# Altium footprint library Connector_USB.PcbLib: 1 footprints
Each footprint in its own frame and in the unit in brackets; x right, y up, seen from the top. Pads: shape width x height; smd on the part's side, far side on the other; paste and mask are expansions set on the pad; w line width, h text height; cw(c..) or ccw(c..) is an arc to the next point about the centre after c.
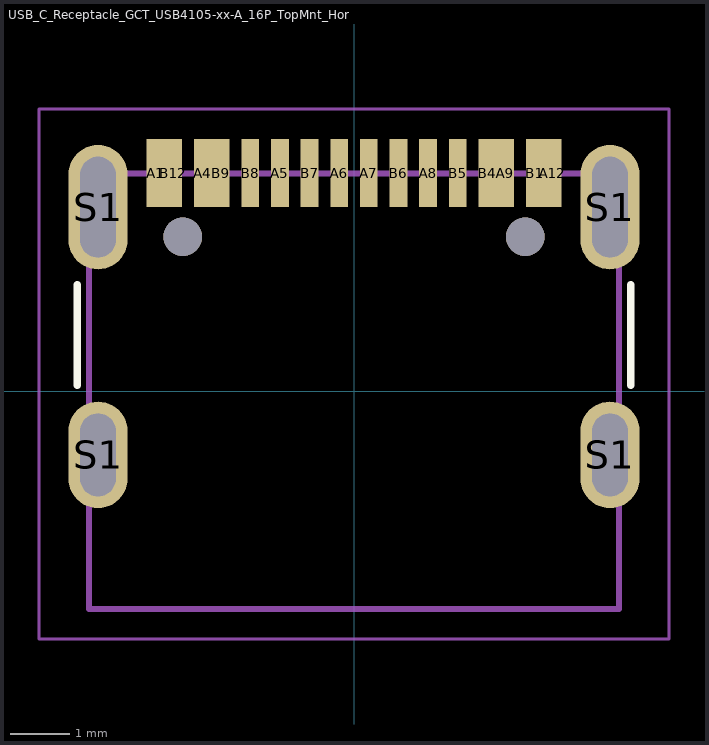
[diagram p0: the footprint, top view; thin cyan lines are the x and y axes]

## USB_C_Receptacle_GCT_USB4105-xx-A_16P_TopMnt_Horizontal [mm]
pads (22):
  rect 0.3x1.15 smd: A1(-3.35,3.68) A4(-2.55,3.68) A5(-1.25,3.68) A6(-0.25,3.68) A7(0.25,3.68) A8(1.25,3.68) A9(2.55,3.68) A12(3.35,3.68) B1(3.05,3.68) B4(2.25,3.68) B5(1.75,3.68) B6(0.75,3.68) B7(-0.75,3.68) B8(-1.75,3.68) B9(-2.25,3.68) B12(-3.05,3.68)
  oval 1x1.8 hole 0.6 slot 1.4 at 90 deg: S1(-4.32,-1.075) S1(4.32,-1.075)
  oval 1x2.1 hole 0.6 slot 1.7 at 90 deg: S1(-4.32,3.105) S1(4.32,3.105)
  round 0.65 hole 0.65 unplated: ""(-2.89,2.605) ""(2.89,2.605)
Top Overlay:
  lines w0.12: -4.67,0.1 -4.67,1.8 ; 4.67,0.1 4.67,1.8
Mechanical 13:
  lines w0.1: -4.47,-3.675 4.47,-3.675 4.47,3.675 -4.47,3.675 -4.47,-3.675
Mechanical 15:
  lines w0.05: -5.32,-4.18 -5.32,4.76 5.32,4.76 5.32,-4.18 -5.32,-4.18
3D body "USB_C_Receptacle_GCT_USB4105-xx-A_16P_TopMnt_Horizontal.step": height 3.31, standoff -0.95, extent -4.47,-3.675 4.47,4.105